# Altium schematic symbol library Optocoupleur.SchLib: 1 symbol
Pins are listed as number, name and electrical type; pins without a type are passive.

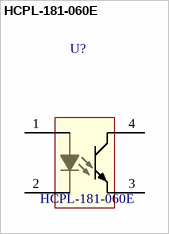
[diagram p0: symbol HCPL-181-060E]

## HCPL-181-060E
designator U?
OPTOISO 3.75KV TRANS 4MINIFLAT; Manufacturer: AVAGO TECHNOLOGIES; Supplier 1: Farnell; Supplier Part Number 1: 1244532; Manufacturer Part Number: HCPL-181-060E; ComponentLink1URL: http://www.farnell.com/datasheets/317140.pdf; ComponentLink1Description: http://www.farnell.com/datasheets/317140.pdf
footprint HCPL-181-060E
pins: 1 Anode, 2 Cathode, 3 Emetteur, 4 Collecteur